# EAGLE library part FDG6303N (library clackboard_lib)
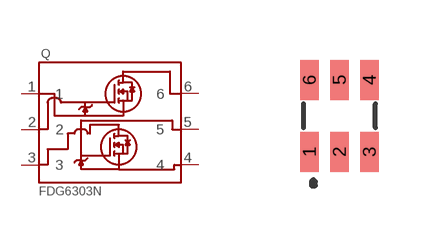
[diagram p20: symbol with the pads of FDG6303N; footprint FDG6303N]

Designator prefix Q

## FDG6303N  [FDG6303N]
1  1
2  2
3  3
4  4
5  5
6  6

## Footprint FDG6303N (pad centres in mm)
smd 0.47 x 1: 1 -0.75,-0.9; 2 0,-0.9; 3 0.75,-0.9; 4 0.75,0.9; 5 0,0.9; 6 -0.75,0.9